# Altium footprint library NIXIE_3.PcbLib: 9 footprints
Each footprint in its own frame and in the unit in brackets; x right, y up, seen from the top. Pads: shape width x height; smd on the part's side, far side on the other; paste and mask are expansions set on the pad; w line width, h text height; cw(c..) or ccw(c..) is an arc to the next point about the centre after c.
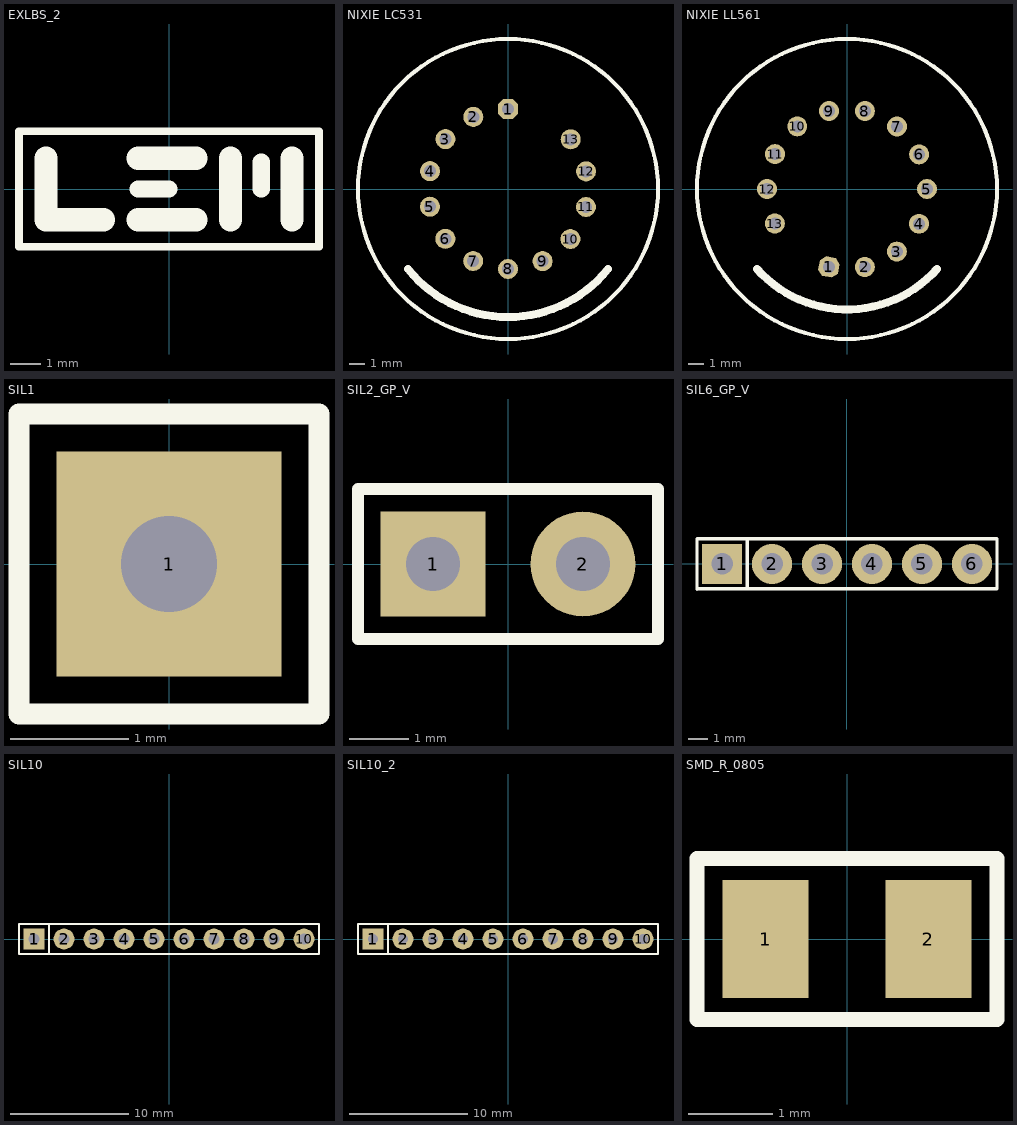
[diagram p0: the footprints below, top view; thin cyan lines are the x and y axes]

## EXLBS_2 [mil] "Exlibris TOP Layer Hight = 180mil"
height 452.76
Top Overlay:
  lines w10: -195,-75 -195,75 195,75 195,-75 -195,-75
  lines w22.5: -40,0 0,0 ; 120,0 120,35
  lines w30: -160,40 -160,-40 -85,-40 ; -40,-40 35,-40 ; -40,40 35,40 ; 80,-40 80,40 ; 160,-40 160,40

## NIXIE LC531 [mil] "Lampa Nixie LC531 NUMERYCZNA"
height 2000
pads (13):
  oct 50x50 hole 30: 1(-0.04,200)
  round 50 hole 30: 2(-86.77,180.22) 3(-156.34,124.78) 4(-194.99,44.65) 5(-195.07,-44.31) 6(-156.56,-124.5) 7(-87.08,-180.06) 8(-0.04,-200) 9(86.38,-180.37) 10(156.05,-125.05) 11(194.84,-44.99) 12(195.07,43.97) 13(156.7,124.23)
Top Overlay:
  circle w10: c-0.04,0 r375
  lines w20: -250.04,-200 ccw(c-0.04,0) 249.96,-200

## NIXIE LL561 [mil] "Lampa Nixie LL561 ZNAKOWA"
height 2000
pads (13):
  oct 50x50 hole 30 rot 168.75: 1(-45.16,-194.83)
  round 50 hole 30: 2(44.48,-194.99) 3(124.64,-156.41) 4(180.14,-86.89) 5(200,0) 6(180.29,86.57) 7(124.91,156.19) 8(44.82,194.91) 9(-45,195) 10(-124.37,156.63) 11(-179.99,87.2) 12(-200,0) 13(-180.44,-86.26)
Top Overlay:
  circle w10: c0,0 r375
  lines w20: -225,-200 ccw(c0,0) 225,-200

## SIL1 [mil] "Obudowa szeregow SIP 1 pin"
height 452.76
pads (1):
  rect 75x75 hole 32: 1(0,0)
Top Overlay:
  lines w7: -50,-50 50,-50 50,50 -50,50 -50,-50
3D body "1pin_straight.STEP": height 325.74, standoff -101.11, extent -49.1,-50.2 51.1,50

## SIL2_GP_V [mil] "Goldpin pion 2PIN"
height 350
pads (2):
  rect 70x70 hole 36: 1(-50,0)
  round 70 hole 36: 2(50,0)
Top Overlay:
  lines w8: -100,-50 -100,50 100,50 100,-50 -100,-50
3D body "2pin_straight.STEP": height 325.74, standoff -101.11, extent -100.1,-50.1 100.1,50.58

## SIL6_GP_V [mil] "Goldpin 6PIN pionowe"
height 350
pads (6):
  rect 80x80 hole 43: 1(-250,0)
  round 80 hole 43: 2(-150,0) 3(-50,0) 4(50,0) 5(150,0) 6(250,0)
Top Overlay:
  lines w7: -200,-46.85 -200,50 ; -300.09,-50.09 -300.09,50 300.1,50 300.1,-50 -196.85,-50 -300,-50 -300.09,-50.09
3D body "6pin_straight.STEP": height 308.74, standoff -118.11, extent -300.09,-50.1 300.1,52.51

## SIL10 [mil] "Obudowa szeregowa 10p"
height 452.76
pads (10):
  rect 70x70 hole 36: 1(-450,0)
  round 70 hole 36: 2(-350,0) 3(-250,0) 4(-150,0) 5(-50,0) 6(50,0) 7(150,0) 8(250,0) 9(350,0) 10(450,0)
Top Overlay:
  lines w8: -400,-50 -400,50 ; -500,-50 500,-50 500,50 -500,50 -500,-50
3D body "10pin_straight.STEP": height 325.74, standoff -101.11, extent -500,-52 500.19,52.53

## SIL10_2 [mil]
pads (10):
  rect 70x70 hole 32: 1(-450,0)
  round 70 hole 32: 2(-350,0) 3(-250,0) 4(-150,0) 5(-50,0) 6(50,0) 7(150,0) 8(250,0) 9(350,0) 10(450,0)
Top Overlay:
  lines w8: -400,-50 -400,50 ; -500,-50 500,-50 500,50 -500,50 -500,-50
3D body "10pin_straight.STEP": height 325.74, standoff -101.11, extent -500,-52 500.19,52.53

## SMD_R_0805 [mil] "Rozmiar 0805 -> 80x50mil"
height 20
pads (2):
  rect 40x55 smd: 1(-38,0) 2(38,0)
Top Overlay:
  lines w7: -70,-37.5 -70,37.5 70,37.5 70,-37.5 -70,-37.5
3D body "R_0805.STEP": height 30.79, standoff 0, extent -39.37,-24.21 39.37,25